# Altium schematic symbol library ESDM3051MXT5G.SchLib: 1 symbol
Pins are listed as number, name and electrical type; pins without a type are passive.

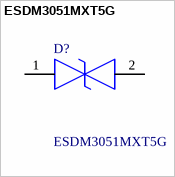
[diagram p0: symbol ESDM3051MXT5G]

## ESDM3051MXT5G
designator D?
7.5V (Typ) Clamp 9.9A (8/20s) Ipp Tvs Diode Surface Mount 2-X3DFN (0.6x0.3) (0201); Manufacturer_Name: onsemi; Geometry.Height: 0.33mm; Arrow Part Number: ESDM3051MXT5G; Arrow Price/Stock: https://www.arrow.com/en/products/esdm3051mxt5g/on-semiconductor; Manufacturer_Part_Number: ESDM3051MXT5G; Datasheet Link: https://www.arrow.com/en/products/esdm3051mxt5g/on-semiconductor
footprint ESDM3051MXT5G
pins: 1, 2